# Altium schematic symbol library SCH - MCU - STM32 - ST MICROELECTRONICS STM32F398VETX LQFP100.SchLib: 1 symbol
Pins are listed as number, name and electrical type; pins without a type are passive.

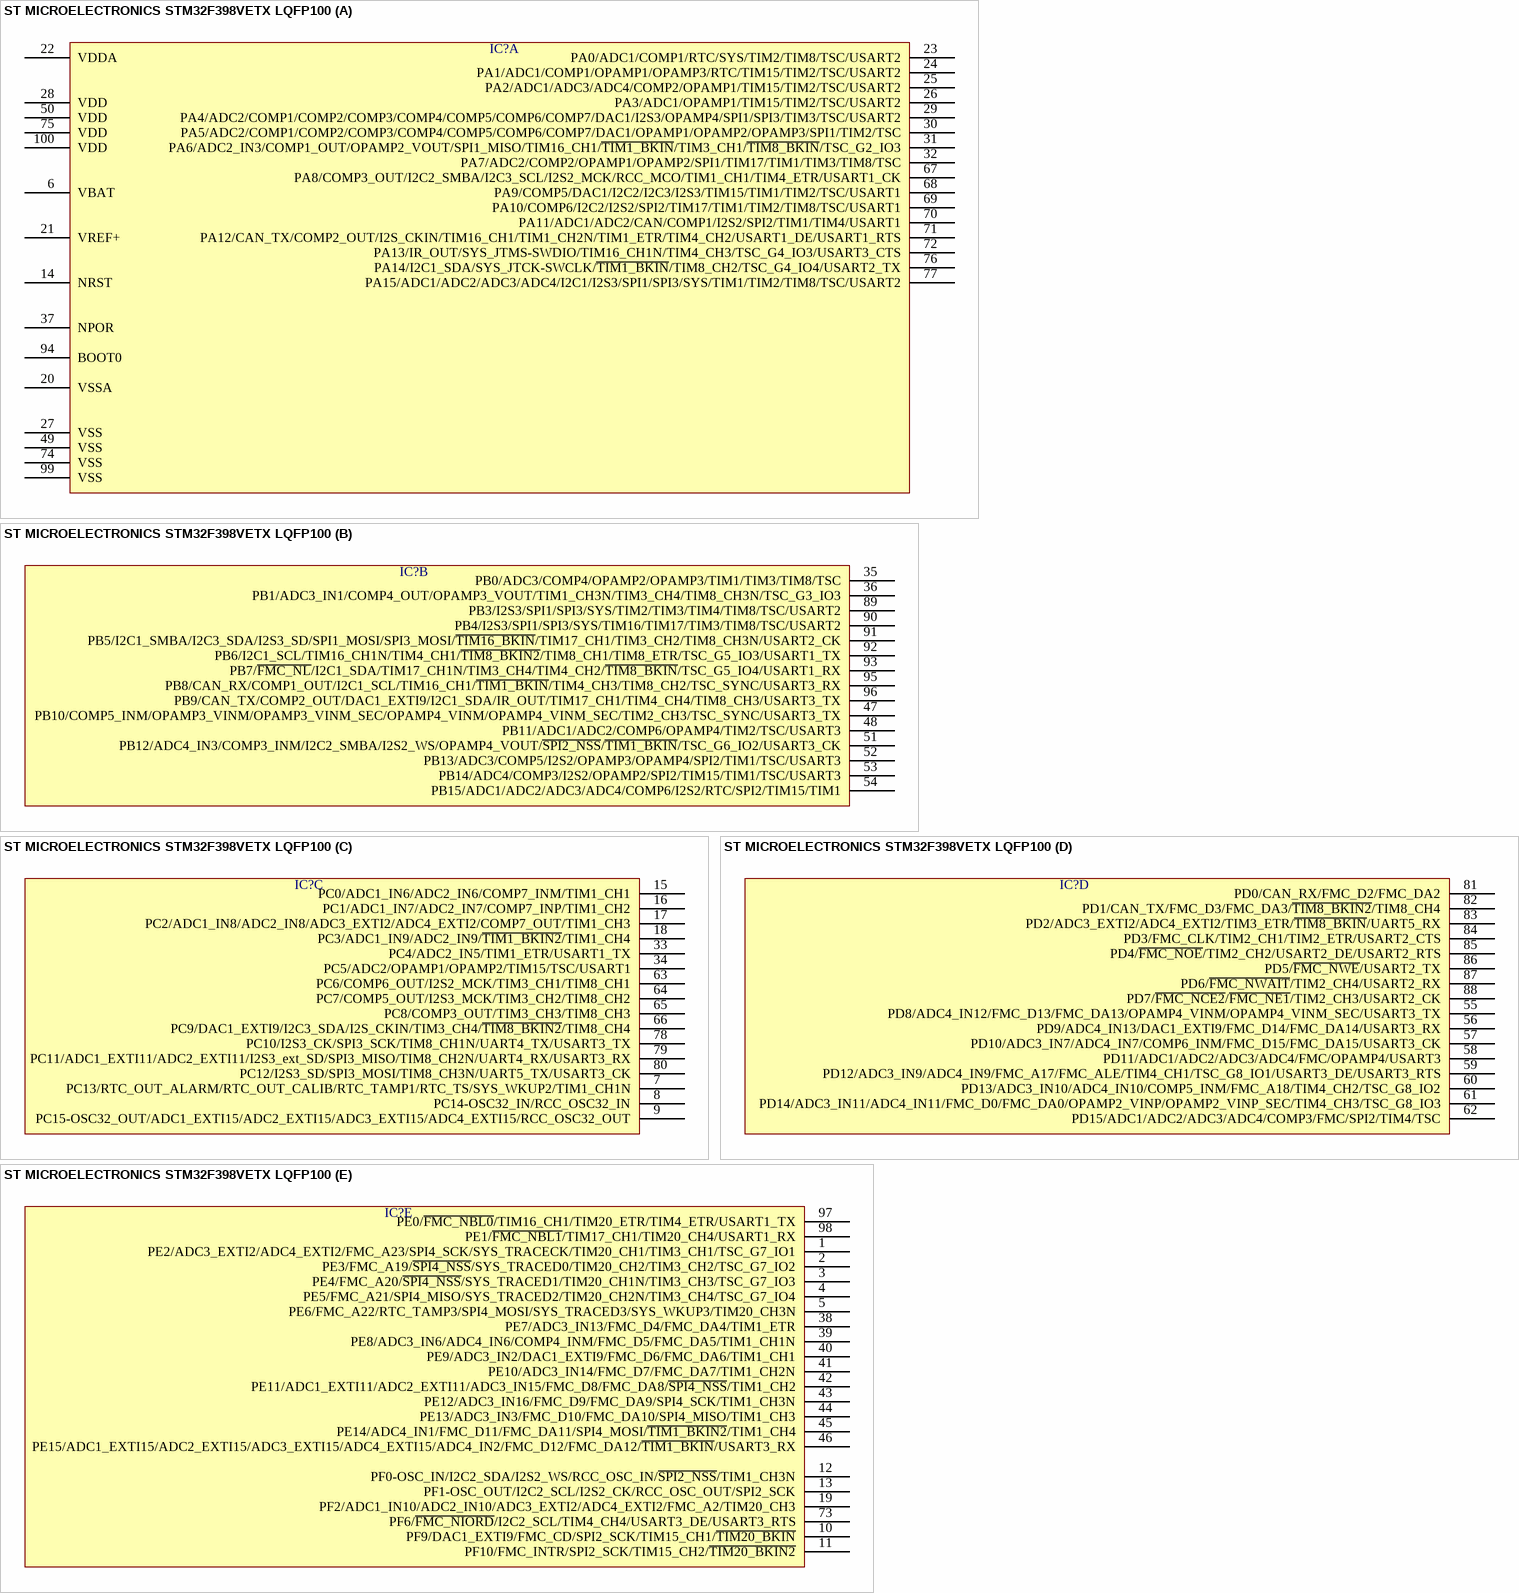
[diagram p0: symbol ST MICROELECTRONICS STM32F398VETX LQFP100]

## ST MICROELECTRONICS STM32F398VETX LQFP100
designator IC?  (value not drawn)
part A pins: 6 VBAT, 14 NRST, 20 VSSA, 21 VREF+, 22 VDDA, 23 PA0/ADC1/COMP1/RTC/SYS/TIM2/TIM8/TSC/USART2, 24 PA1/ADC1/COMP1/OPAMP1/OPAMP3/RTC/TIM15/TIM2/TSC/USART2, 25 PA2/ADC1/ADC3/ADC4/COMP2/OPAMP1/TIM15/TIM2/TSC/USART2, 26 PA3/ADC1/OPAMP1/TIM15/TIM2/TSC/USART2, 27 VSS, 28 VDD, 29 PA4/ADC2/COMP1/COMP2/COMP3/COMP4/COMP5/COMP6/COMP7/DAC1/I2S3/OPAMP4/SPI1/SPI3/TIM3/TSC/USART2, 30 PA5/ADC2/COMP1/COMP2/COMP3/COMP4/COMP5/COMP6/COMP7/DAC1/OPAMP1/OPAMP2/OPAMP3/SPI1/TIM2/TSC, 31 PA6/ADC2_IN3/COMP1_OUT/OPAMP2_VOUT/SPI1_MISO/TIM16_CH1/~{TIM1_BKIN}/TIM3_CH1/~{TIM8_BKIN}/TSC_G2_IO3, 32 PA7/ADC2/COMP2/OPAMP1/OPAMP2/SPI1/TIM17/TIM1/TIM3/TIM8/TSC, 37 NPOR, 49 VSS, 50 VDD, 67 PA8/COMP3_OUT/I2C2_SMBA/I2C3_SCL/I2S2_MCK/RCC_MCO/TIM1_CH1/TIM4_ETR/USART1_CK, 68 PA9/COMP5/DAC1/I2C2/I2C3/I2S3/TIM15/TIM1/TIM2/TSC/USART1, 69 PA10/COMP6/I2C2/I2S2/SPI2/TIM17/TIM1/TIM2/TIM8/TSC/USART1, 70 PA11/ADC1/ADC2/CAN/COMP1/I2S2/SPI2/TIM1/TIM4/USART1, 71 PA12/CAN_TX/COMP2_OUT/I2S_CKIN/TIM16_CH1/TIM1_CH2N/TIM1_ETR/TIM4_CH2/USART1_DE/USART1_RTS, 72 PA13/IR_OUT/SYS_JTMS-SWDIO/TIM16_CH1N/TIM4_CH3/TSC_G4_IO3/USART3_CTS, 74 VSS, 75 VDD, 76 PA14/I2C1_SDA/SYS_JTCK-SWCLK/~{TIM1_BKIN}/TIM8_CH2/TSC_G4_IO4/USART2_TX, 77 PA15/ADC1/ADC2/ADC3/ADC4/I2C1/I2S3/SPI1/SPI3/SYS/TIM1/TIM2/TIM8/TSC/USART2, 94 BOOT0, 99 VSS, 100 VDD
part B pins: 35 PB0/ADC3/COMP4/OPAMP2/OPAMP3/TIM1/TIM3/TIM8/TSC, 36 PB1/ADC3_IN1/COMP4_OUT/OPAMP3_VOUT/TIM1_CH3N/TIM3_CH4/TIM8_CH3N/TSC_G3_IO3, 47 PB10/COMP5_INM/OPAMP3_VINM/OPAMP3_VINM_SEC/OPAMP4_VINM/OPAMP4_VINM_SEC/TIM2_CH3/TSC_SYNC/USART3_TX, 48 PB11/ADC1/ADC2/COMP6/OPAMP4/TIM2/TSC/USART3, 51 PB12/ADC4_IN3/COMP3_INM/I2C2_SMBA/I2S2_WS/OPAMP4_VOUT/~{SPI2_NSS}/~{TIM1_BKIN}/TSC_G6_IO2/USART3_CK, 52 PB13/ADC3/COMP5/I2S2/OPAMP3/OPAMP4/SPI2/TIM1/TSC/USART3, 53 PB14/ADC4/COMP3/I2S2/OPAMP2/SPI2/TIM15/TIM1/TSC/USART3, 54 PB15/ADC1/ADC2/ADC3/ADC4/COMP6/I2S2/RTC/SPI2/TIM15/TIM1, 89 PB3/I2S3/SPI1/SPI3/SYS/TIM2/TIM3/TIM4/TIM8/TSC/USART2, 90 PB4/I2S3/SPI1/SPI3/SYS/TIM16/TIM17/TIM3/TIM8/TSC/USART2, 91 PB5/I2C1_SMBA/I2C3_SDA/I2S3_SD/SPI1_MOSI/SPI3_MOSI/~{TIM16_BKIN}/TIM17_CH1/TIM3_CH2/TIM8_CH3N/USART2_CK, 92 PB6/I2C1_SCL/TIM16_CH1N/TIM4_CH1/~{TIM8_BKIN2}/TIM8_CH1/TIM8_ETR/TSC_G5_IO3/USART1_TX, 93 PB7/~{FMC_NL}/I2C1_SDA/TIM17_CH1N/TIM3_CH4/TIM4_CH2/~{TIM8_BKIN}/TSC_G5_IO4/USART1_RX, 95 PB8/CAN_RX/COMP1_OUT/I2C1_SCL/TIM16_CH1/~{TIM1_BKIN}/TIM4_CH3/TIM8_CH2/TSC_SYNC/USART3_RX, 96 PB9/CAN_TX/COMP2_OUT/DAC1_EXTI9/I2C1_SDA/IR_OUT/TIM17_CH1/TIM4_CH4/TIM8_CH3/USART3_TX
part C pins: 7 PC13/RTC_OUT_ALARM/RTC_OUT_CALIB/RTC_TAMP1/RTC_TS/SYS_WKUP2/TIM1_CH1N, 8 PC14-OSC32_IN/RCC_OSC32_IN, 9 PC15-OSC32_OUT/ADC1_EXTI15/ADC2_EXTI15/ADC3_EXTI15/ADC4_EXTI15/RCC_OSC32_OUT, 15 PC0/ADC1_IN6/ADC2_IN6/COMP7_INM/TIM1_CH1, 16 PC1/ADC1_IN7/ADC2_IN7/COMP7_INP/TIM1_CH2, 17 PC2/ADC1_IN8/ADC2_IN8/ADC3_EXTI2/ADC4_EXTI2/COMP7_OUT/TIM1_CH3, 18 PC3/ADC1_IN9/ADC2_IN9/~{TIM1_BKIN2}/TIM1_CH4, 33 PC4/ADC2_IN5/TIM1_ETR/USART1_TX, 34 PC5/ADC2/OPAMP1/OPAMP2/TIM15/TSC/USART1, 63 PC6/COMP6_OUT/I2S2_MCK/TIM3_CH1/TIM8_CH1, 64 PC7/COMP5_OUT/I2S3_MCK/TIM3_CH2/TIM8_CH2, 65 PC8/COMP3_OUT/TIM3_CH3/TIM8_CH3, 66 PC9/DAC1_EXTI9/I2C3_SDA/I2S_CKIN/TIM3_CH4/~{TIM8_BKIN2}/TIM8_CH4, 78 PC10/I2S3_CK/SPI3_SCK/TIM8_CH1N/UART4_TX/USART3_TX, 79 PC11/ADC1_EXTI11/ADC2_EXTI11/I2S3_ext_SD/SPI3_MISO/TIM8_CH2N/UART4_RX/USART3_RX, 80 PC12/I2S3_SD/SPI3_MOSI/TIM8_CH3N/UART5_TX/USART3_CK
part D pins: 55 PD8/ADC4_IN12/FMC_D13/FMC_DA13/OPAMP4_VINM/OPAMP4_VINM_SEC/USART3_TX, 56 PD9/ADC4_IN13/DAC1_EXTI9/FMC_D14/FMC_DA14/USART3_RX, 57 PD10/ADC3_IN7/ADC4_IN7/COMP6_INM/FMC_D15/FMC_DA15/USART3_CK, 58 PD11/ADC1/ADC2/ADC3/ADC4/FMC/OPAMP4/USART3, 59 PD12/ADC3_IN9/ADC4_IN9/FMC_A17/FMC_ALE/TIM4_CH1/TSC_G8_IO1/USART3_DE/USART3_RTS, 60 PD13/ADC3_IN10/ADC4_IN10/COMP5_INM/FMC_A18/TIM4_CH2/TSC_G8_IO2, 61 PD14/ADC3_IN11/ADC4_IN11/FMC_D0/FMC_DA0/OPAMP2_VINP/OPAMP2_VINP_SEC/TIM4_CH3/TSC_G8_IO3, 62 PD15/ADC1/ADC2/ADC3/ADC4/COMP3/FMC/SPI2/TIM4/TSC, 81 PD0/CAN_RX/FMC_D2/FMC_DA2, 82 PD1/CAN_TX/FMC_D3/FMC_DA3/~{TIM8_BKIN2}/TIM8_CH4, 83 PD2/ADC3_EXTI2/ADC4_EXTI2/TIM3_ETR/~{TIM8_BKIN}/UART5_RX, 84 PD3/FMC_CLK/TIM2_CH1/TIM2_ETR/USART2_CTS, 85 PD4/~{FMC_NOE}/TIM2_CH2/USART2_DE/USART2_RTS, 86 PD5/~{FMC_NWE}/USART2_TX, 87 PD6/~{FMC_NWAIT}/TIM2_CH4/USART2_RX, 88 PD7/~{FMC_NCE2}/~{FMC_NE1}/TIM2_CH3/USART2_CK
part E pins: 1 PE2/ADC3_EXTI2/ADC4_EXTI2/FMC_A23/SPI4_SCK/SYS_TRACECK/TIM20_CH1/TIM3_CH1/TSC_G7_IO1, 2 PE3/FMC_A19/~{SPI4_NSS}/SYS_TRACED0/TIM20_CH2/TIM3_CH2/TSC_G7_IO2, 3 PE4/FMC_A20/~{SPI4_NSS}/SYS_TRACED1/TIM20_CH1N/TIM3_CH3/TSC_G7_IO3, 4 PE5/FMC_A21/SPI4_MISO/SYS_TRACED2/TIM20_CH2N/TIM3_CH4/TSC_G7_IO4, 5 PE6/FMC_A22/RTC_TAMP3/SPI4_MOSI/SYS_TRACED3/SYS_WKUP3/TIM20_CH3N, 10 PF9/DAC1_EXTI9/FMC_CD/SPI2_SCK/TIM15_CH1/~{TIM20_BKIN}, 11 PF10/FMC_INTR/SPI2_SCK/TIM15_CH2/~{TIM20_BKIN2}, 12 PF0-OSC_IN/I2C2_SDA/I2S2_WS/RCC_OSC_IN/~{SPI2_NSS}/TIM1_CH3N, 13 PF1-OSC_OUT/I2C2_SCL/I2S2_CK/RCC_OSC_OUT/SPI2_SCK, 19 PF2/ADC1_IN10/ADC2_IN10/ADC3_EXTI2/ADC4_EXTI2/FMC_A2/TIM20_CH3, 38 PE7/ADC3_IN13/FMC_D4/FMC_DA4/TIM1_ETR, 39 PE8/ADC3_IN6/ADC4_IN6/COMP4_INM/FMC_D5/FMC_DA5/TIM1_CH1N, 40 PE9/ADC3_IN2/DAC1_EXTI9/FMC_D6/FMC_DA6/TIM1_CH1, 41 PE10/ADC3_IN14/FMC_D7/FMC_DA7/TIM1_CH2N, 42 PE11/ADC1_EXTI11/ADC2_EXTI11/ADC3_IN15/FMC_D8/FMC_DA8/~{SPI4_NSS}/TIM1_CH2, 43 PE12/ADC3_IN16/FMC_D9/FMC_DA9/SPI4_SCK/TIM1_CH3N, 44 PE13/ADC3_IN3/FMC_D10/FMC_DA10/SPI4_MISO/TIM1_CH3, 45 PE14/ADC4_IN1/FMC_D11/FMC_DA11/SPI4_MOSI/~{TIM1_BKIN2}/TIM1_CH4, 46 PE15/ADC1_EXTI15/ADC2_EXTI15/ADC3_EXTI15/ADC4_EXTI15/ADC4_IN2/FMC_D12/FMC_DA12/~{TIM1_BKIN}/USART3_RX, 73 PF6/~{FMC_NIORD}/I2C2_SCL/TIM4_CH4/USART3_DE/USART3_RTS, 97 PE0/~{FMC_NBL0}/TIM16_CH1/TIM20_ETR/TIM4_ETR/USART1_TX, 98 PE1/~{FMC_NBL1}/TIM17_CH1/TIM20_CH4/USART1_RX